# Altium schematic symbol library Display.SchLib: 5 symbols
Pins are listed as number, name and electrical type; pins without a type are passive.

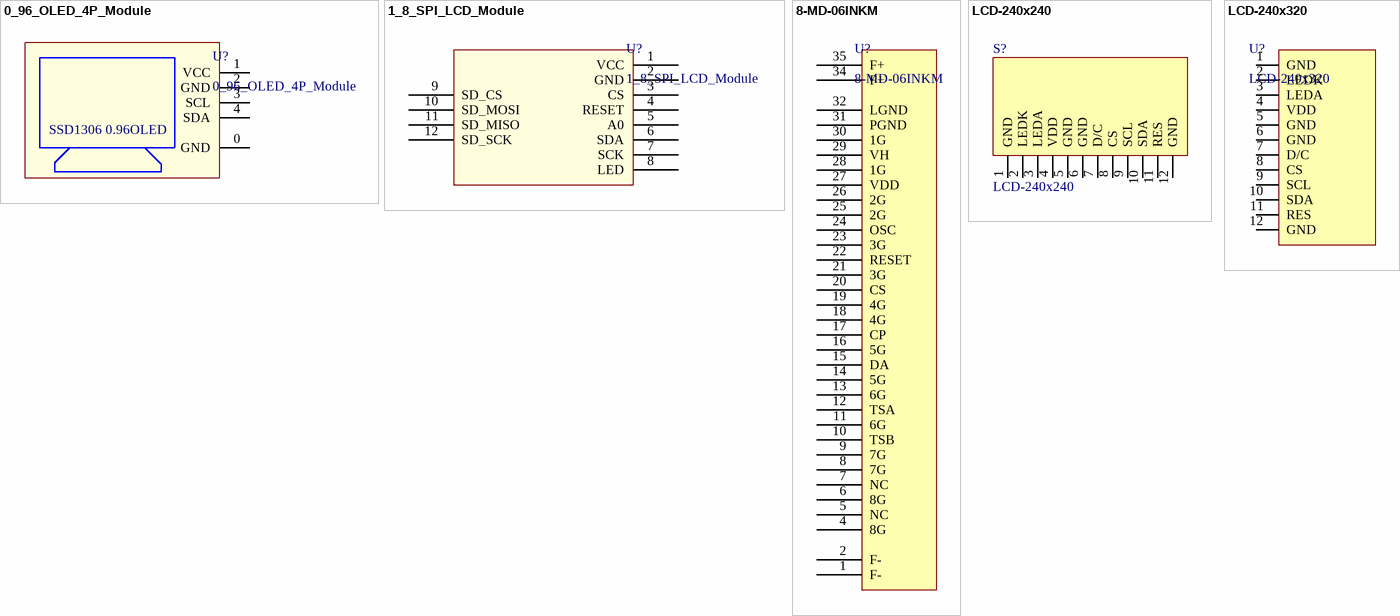
[diagram p0: symbols 0_96_OLED_4P_Module to LCD-240x320]

## 0_96_OLED_4P_Module
designator U?
0.96 OLED module
footprint OLED_0_96_4PIN
pins: 0 GND, 1 VCC, 2 GND, 3 SCL, 4 SDA
text: SSD1306 0.96OLED

## 1_8_SPI_LCD_Module
designator U?
footprint 1_8-LCD-SD-SPI_12P
pins: 1 VCC, 2 GND, 3 CS, 4 RESET, 5 A0, 6 SDA, 7 SCK, 8 LED, 9 SD_CS, 10 SD_MOSI, 11 SD_MISO, 12 SD_SCK

## 8-MD-06INKM
designator U?
VFD Display
footprint 8-MD-06INKM
pins: 1 F-, 2 F-, 4 8G, 5 NC, 6 8G, 7 NC, 8 7G, 9 7G, 10 TSB, 11 6G, 12 TSA, 13 6G, 14 5G, 15 DA, 16 5G, 17 CP, 18 4G, 19 4G, 20 CS, 21 3G, 22 RESET, 23 3G, 24 OSC, 25 2G, 26 2G, 27 VDD, 28 1G, 29 VH, 30 1G, 31 PGND, 32 LGND, 34 F+, 35 F+

## LCD-240x240
designator S?
显示屏
footprint LCD-240x240-FlUSH-154
pins: 1 GND, 2 LEDK, 3 LEDA, 4 VDD, 5 GND, 6 GND, 7 D/C, 8 CS, 9 SCL, 10 SDA, 11 RES, 12 GND

## LCD-240x320
designator U?
footprint LCD-240x320_SPI_2.0
pins: 1 GND, 2 LEDK, 3 LEDA, 4 VDD, 5 GND, 6 GND, 7 D/C, 8 CS, 9 SCL, 10 SDA, 11 RES, 12 GND